# EAGLE library part К1921ВК01Т (library mcu)
АДКБ.431290.273 ТУ К1921ВК01Т - 32-разрядный микроконтроллер на базе ядра ARM Cortex-M4F с периферией, специализированной под задачи управления электроприводом. Содержит 1024Кб Flash-памяти, 64Кб EEPROM и 192Кб ОЗУ. Производитель: ОАО «НИИЭТ», г. Воронеж. Технические условия: АДКБ.431290.273 ТУ
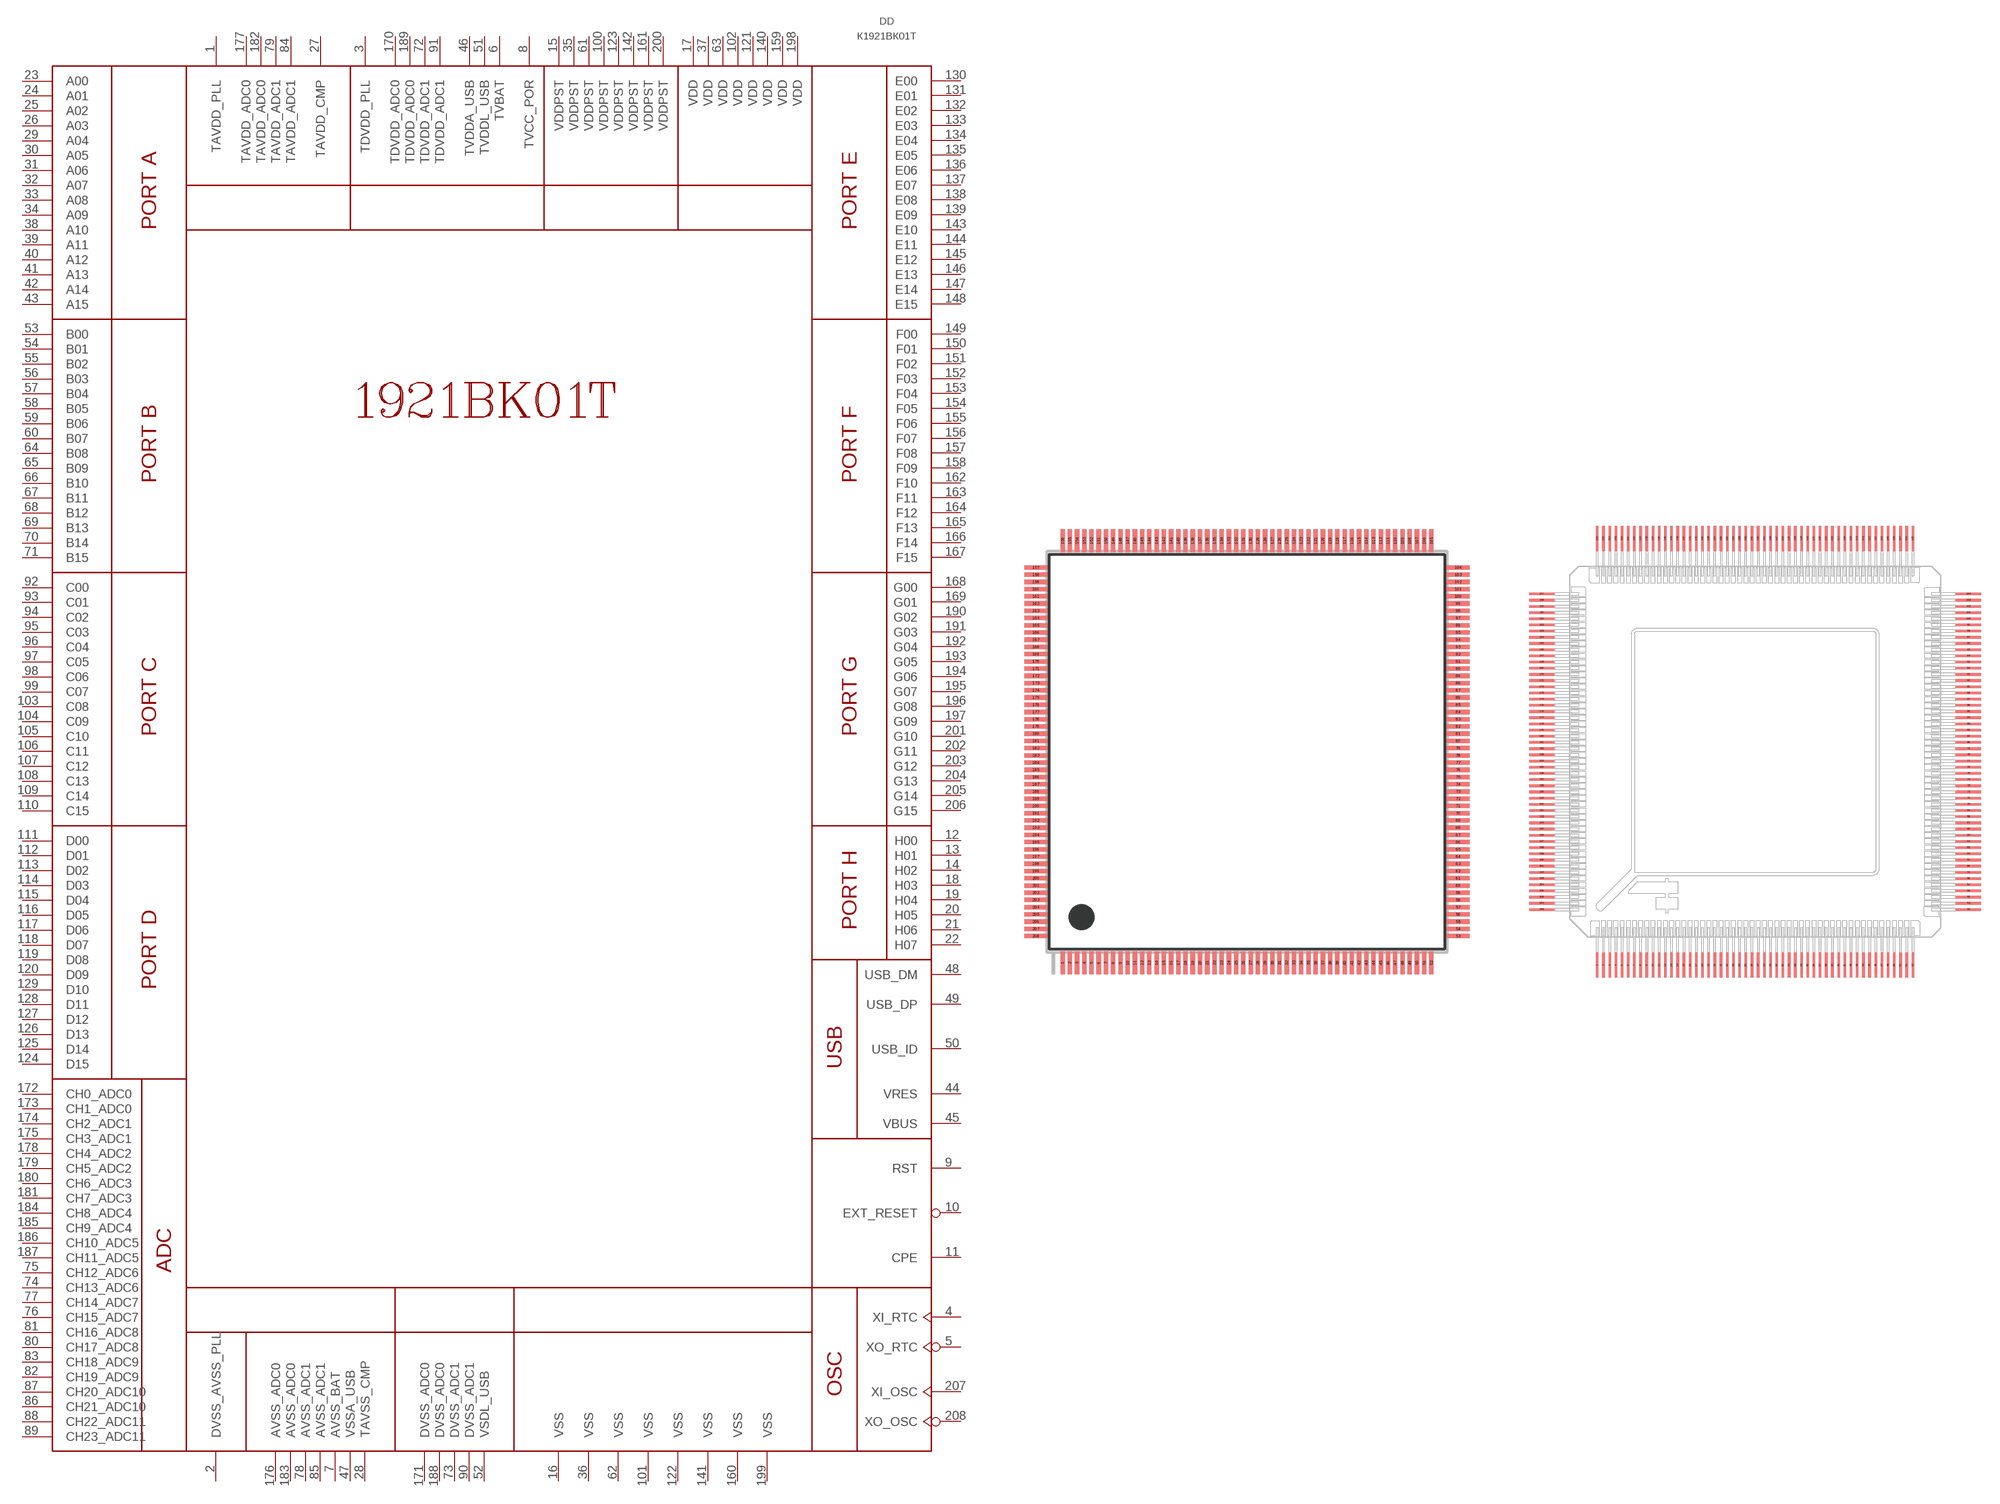
[diagram p4: symbol with the pads of QFP208L; footprints QFP208L, 4250.208-1]

Designator prefix DD

## К1921ВК01Т(QFP208L)  [QFP208L]
1  TAVDD_PLL  pwr
2  DVSS_AVSS_PLL  pwr
3  TDVDD_PLL  pwr
4  XI_RTC  in
5  XO_RTC  out
6  TVBAT  pwr
7  AVSS_BAT  pwr
8  TVCC_POR  pwr
9  RST
10  EXT_RESET  out
11  CPE
12  H00
13  H01
14  H02
15  VDDPST  pwr
16  VSS  pwr
17  VDD  pwr
18  H03
19  H04
20  H05
21  H06
22  H07
23  A00
24  A01
25  A02
26  A03
27  TAVDD_CMP  pwr
28  TAVSS_CMP  pwr
29  A04
30  A05
31  A06
32  A07
33  A08
34  A09
35  VDDPST  pwr
36  VSS  pwr
37  VDD  pwr
38  A10
39  A11
40  A12
41  A13
42  A14
43  A15
44  VRES  pwr
45  VBUS  pwr
46  TVDDA_USB  pwr
47  VSSA_USB  pwr
48  USB_DM
49  USB_DP
50  USB_ID
51  TVDDL_USB  pwr
52  VSDL_USB  pwr
53  B00
54  B01
55  B02
56  B03
57  B04
58  B05
59  B06
60  B07
61  VDDPST  pwr
62  VSS  pwr
63  VDD  pwr
64  B08
65  B09
66  B10
67  B11
68  B12
69  B13
70  B14
71  B15
72  TDVDD_ADC1  pwr
73  DVSS_ADC1  pwr
74  CH13_ADC6  in
75  CH12_ADC6  in
76  CH15_ADC7  in
77  CH14_ADC7  in
78  AVSS_ADC1  pwr
79  TAVDD_ADC1  pwr
80  CH17_ADC8  in
81  CH16_ADC8  in
82  CH19_ADC9  in
83  CH18_ADC9  in
84  TAVDD_ADC1  pwr
85  AVSS_ADC1  pwr
86  CH21_ADC10  in
87  CH20_ADC10  in
88  CH22_ADC11  in
89  CH23_ADC11  in
90  DVSS_ADC1  pwr
91  TDVDD_ADC1  pwr
92  C00
93  C01
94  C02
95  C03
96  C04
97  C05
98  C06
99  C07
100  VDDPST  pwr
101  VSS  pwr
102  VDD  pwr
103  C08
104  C09
105  C10
106  C11
107  C12
108  C13
109  C14
110  C15
111  D00
112  D01
113  D02
114  D03
115  D04
116  D05
117  D06
118  D07
119  D08
120  D09
121  VDD  pwr
122  VSS  pwr
123  VDDPST  pwr
124  D15
125  D14
126  D13
127  D12
128  D11
129  D10
130  E00
131  E01
132  E02
133  E03
134  E04
135  E05
136  E06
137  E07
138  E08
139  E09
140  VDD  pwr
141  VSS  pwr
142  VDDPST  pwr
143  E10
144  E11
145  E12
146  E13
147  E14
148  E15
149  F00
150  F01
151  F02
152  F03
153  F04
154  F05
155  F06
156  F07
157  F08
158  F09
159  VDD  pwr
160  VSS  pwr
161  VDDPST  pwr
162  F10
163  F11
164  F12
165  F13
166  F14
167  F15
168  G00
169  G01
170  TDVDD_ADC0  pwr
171  DVSS_ADC0  pwr
172  CH0_ADC0  in
173  CH1_ADC0  in
174  CH2_ADC1  in
175  CH3_ADC1  in
176  AVSS_ADC0  pwr
177  TAVDD_ADC0  pwr
178  CH4_ADC2  in
179  CH5_ADC2  in
180  CH6_ADC3  in
181  CH7_ADC3  in
182  TAVDD_ADC0  pwr
183  AVSS_ADC0  pwr
184  CH8_ADC4  in
185  CH9_ADC4  in
186  CH10_ADC5  in
187  CH11_ADC5  in
188  DVSS_ADC0  pwr
189  TDVDD_ADC0  pwr
190  G02
191  G03
192  G04
193  G05
194  G06
195  G07
196  G08
197  G09
198  VDD  pwr
199  VSS  pwr
200  VDDPST  pwr
201  G10
202  G11
203  G12
204  G13
205  G14
206  G15
207  XI_OSC  in
208  XO_OSC  out

## К1921ВК01Т(4250.208-1)  [4250.208-1]
Pads as for QFP208L

## Footprint QFP208L (pad centres in mm)
QFP208 shrink quad flat pack, square 0.5mm pitch, 28 x 28 mm
smd 0.3 x 1.6: 1 -12.75,-14.6; 2 -12.25,-14.6; 3 -11.75,-14.6; 4 -11.25,-14.6; 5 -10.75,-14.6; 6 -10.25,-14.6; 7 -9.75,-14.6; 8 -9.25,-14.6; 9 -8.75,-14.6; 10 -8.25,-14.6; 11 -7.75,-14.6; 12 -7.25,-14.6; 13 -6.75,-14.6; 14 -6.25,-14.6; 15 -5.75,-14.6; 16 -5.25,-14.6; 17 -4.75,-14.6; 18 -4.25,-14.6; 19 -3.75,-14.6; 20 -3.25,-14.6; 21 -2.75,-14.6; 22 -2.25,-14.6; 23 -1.75,-14.6; 24 -1.25,-14.6; 25 -0.75,-14.6; 26 -0.25,-14.6; 27 0.25,-14.6; 28 0.75,-14.6; 29 1.25,-14.6; 30 1.75,-14.6; 31 2.25,-14.6; 32 2.75,-14.6; 33 3.25,-14.6; 34 3.75,-14.6; 35 4.25,-14.6; 36 4.75,-14.6; 37 5.25,-14.6; 38 5.75,-14.6; 39 6.25,-14.6; 40 6.75,-14.6; 41 7.25,-14.6; 42 7.75,-14.6; 43 8.25,-14.6; 44 8.75,-14.6; 45 9.25,-14.6; 46 9.75,-14.6; 47 10.25,-14.6; 48 10.75,-14.6; 49 11.25,-14.6; 50 11.75,-14.6; 51 12.25,-14.6; 52 12.75,-14.6; 105 12.75,14.6; 106 12.25,14.6; 107 11.75,14.6; 108 11.25,14.6; 109 10.75,14.6; 110 10.25,14.6; 111 9.75,14.6; 112 9.25,14.6; 113 8.75,14.6; 114 8.25,14.6; 115 7.75,14.6; 116 7.25,14.6; 117 6.75,14.6; 118 6.25,14.6; 119 5.75,14.6; 120 5.25,14.6; 121 4.75,14.6; 122 4.25,14.6; 123 3.75,14.6; 124 3.25,14.6; 125 2.75,14.6; 126 2.25,14.6; 127 1.75,14.6; 128 1.25,14.6; 129 0.75,14.6; 130 0.25,14.6; 131 -0.25,14.6; 132 -0.75,14.6; 133 -1.25,14.6; 134 -1.75,14.6; 135 -2.25,14.6; 136 -2.75,14.6; 137 -3.25,14.6; 138 -3.75,14.6; 139 -4.25,14.6; 140 -4.75,14.6; 141 -5.25,14.6; 142 -5.75,14.6; 143 -6.25,14.6; 144 -6.75,14.6; 145 -7.25,14.6; 146 -7.75,14.6; 147 -8.25,14.6; 148 -8.75,14.6; 149 -9.25,14.6; 150 -9.75,14.6; 151 -10.25,14.6; 152 -10.75,14.6; 153 -11.25,14.6; 154 -11.75,14.6; 155 -12.25,14.6; 156 -12.75,14.6
smd 1.6 x 0.3: 53 14.6,-12.75; 54 14.6,-12.25; 55 14.6,-11.75; 56 14.6,-11.25; 57 14.6,-10.75; 58 14.6,-10.25; 59 14.6,-9.75; 60 14.6,-9.25; 61 14.6,-8.75; 62 14.6,-8.25; 63 14.6,-7.75; 64 14.6,-7.25; 65 14.6,-6.75; 66 14.6,-6.25; 67 14.6,-5.75; 68 14.6,-5.25; 69 14.6,-4.75; 70 14.6,-4.25; 71 14.6,-3.75; 72 14.6,-3.25; 73 14.6,-2.75; 74 14.6,-2.25; 75 14.6,-1.75; 76 14.6,-1.25; 77 14.6,-0.75; 78 14.6,-0.25; 79 14.6,0.25; 80 14.6,0.75; 81 14.6,1.25; 82 14.6,1.75; 83 14.6,2.25; 84 14.6,2.75; 85 14.6,3.25; 86 14.6,3.75; 87 14.6,4.25; 88 14.6,4.75; 89 14.6,5.25; 90 14.6,5.75; 91 14.6,6.25; 92 14.6,6.75; 93 14.6,7.25; 94 14.6,7.75; 95 14.6,8.25; 96 14.6,8.75; 97 14.6,9.25; 98 14.6,9.75; 99 14.6,10.25; 100 14.6,10.75; 101 14.6,11.25; 102 14.6,11.75; 103 14.6,12.25; 104 14.6,12.75; 157 -14.6,12.75; 158 -14.6,12.25; 159 -14.6,11.75; 160 -14.6,11.25; 161 -14.6,10.75; 162 -14.6,10.25; 163 -14.6,9.75; 164 -14.6,9.25; 165 -14.6,8.75; 166 -14.6,8.25; 167 -14.6,7.75; 168 -14.6,7.25; 169 -14.6,6.75; 170 -14.6,6.25; 171 -14.6,5.75; 172 -14.6,5.25; 173 -14.6,4.75; 174 -14.6,4.25; 175 -14.6,3.75; 176 -14.6,3.25; 177 -14.6,2.75; 178 -14.6,2.25; 179 -14.6,1.75; 180 -14.6,1.25; 181 -14.6,0.75; 182 -14.6,0.25; 183 -14.6,-0.25; 184 -14.6,-0.75; 185 -14.6,-1.25; 186 -14.6,-1.75; 187 -14.6,-2.25; 188 -14.6,-2.75; 189 -14.6,-3.25; 190 -14.6,-3.75; 191 -14.6,-4.25; 192 -14.6,-4.75; 193 -14.6,-5.25; 194 -14.6,-5.75; 195 -14.6,-6.25; 196 -14.6,-6.75; 197 -14.6,-7.25; 198 -14.6,-7.75; 199 -14.6,-8.25; 200 -14.6,-8.75; 201 -14.6,-9.25; 202 -14.6,-9.75; 203 -14.6,-10.25; 204 -14.6,-10.75; 205 -14.6,-11.25; 206 -14.6,-11.75; 207 -14.6,-12.25; 208 -14.6,-12.75

## Footprint 4250.208-1 (pad centres in mm)
smd 0.2 x 2: 1 -12.75,-17.25; 2 -12.25,-17.25; 3 -11.75,-17.25; 4 -11.25,-17.25; 5 -10.75,-17.25; 6 -10.25,-17.25; 7 -9.75,-17.25; 8 -9.25,-17.25; 9 -8.75,-17.25; 10 -8.25,-17.25; 11 -7.75,-17.25; 12 -7.25,-17.25; 13 -6.75,-17.25; 14 -6.25,-17.25; 15 -5.75,-17.25; 16 -5.25,-17.25; 17 -4.75,-17.25; 18 -4.25,-17.25; 19 -3.75,-17.25; 20 -3.25,-17.25; 21 -2.75,-17.25; 22 -2.25,-17.25; 23 -1.75,-17.25; 24 -1.25,-17.25; 25 -0.75,-17.25; 26 -0.25,-17.25; 27 0.25,-17.25; 28 0.75,-17.25; 29 1.25,-17.25; 30 1.75,-17.25; 31 2.25,-17.25; 32 2.75,-17.25; 33 3.25,-17.25; 34 3.75,-17.25; 35 4.25,-17.25; 36 4.75,-17.25; 37 5.25,-17.25; 38 5.75,-17.25; 39 6.25,-17.25; 40 6.75,-17.25; 41 7.25,-17.25; 42 7.75,-17.25; 43 8.25,-17.25; 44 8.75,-17.25; 45 9.25,-17.25; 46 9.75,-17.25; 47 10.25,-17.25; 48 10.75,-17.25; 49 11.25,-17.25; 50 11.75,-17.25; 51 12.25,-17.25; 52 12.75,-17.25; 105 12.75,17.25; 106 12.25,17.25; 107 11.75,17.25; 108 11.25,17.25; 109 10.75,17.25; 110 10.25,17.25; 111 9.75,17.25; 112 9.25,17.25; 113 8.75,17.25; 114 8.25,17.25; 115 7.75,17.25; 116 7.25,17.25; 117 6.75,17.25; 118 6.25,17.25; 119 5.75,17.25; 120 5.25,17.25; 121 4.75,17.25; 122 4.25,17.25; 123 3.75,17.25; 124 3.25,17.25; 125 2.75,17.25; 126 2.25,17.25; 127 1.75,17.25; 128 1.25,17.25; 129 0.75,17.25; 130 0.25,17.25; 131 -0.25,17.25; 132 -0.75,17.25; 133 -1.25,17.25; 134 -1.75,17.25; 135 -2.25,17.25; 136 -2.75,17.25; 137 -3.25,17.25; 138 -3.75,17.25; 139 -4.25,17.25; 140 -4.75,17.25; 141 -5.25,17.25; 142 -5.75,17.25; 143 -6.25,17.25; 144 -6.75,17.25; 145 -7.25,17.25; 146 -7.75,17.25; 147 -8.25,17.25; 148 -8.75,17.25; 149 -9.25,17.25; 150 -9.75,17.25; 151 -10.25,17.25; 152 -10.75,17.25; 153 -11.25,17.25; 154 -11.75,17.25; 155 -12.25,17.25; 156 -12.75,17.25
smd 2 x 0.2: 53 17.25,-12.75; 54 17.25,-12.25; 55 17.25,-11.75; 56 17.25,-11.25; 57 17.25,-10.75; 58 17.25,-10.25; 59 17.25,-9.75; 60 17.25,-9.25; 61 17.25,-8.75; 62 17.25,-8.25; 63 17.25,-7.75; 64 17.25,-7.25; 65 17.25,-6.75; 66 17.25,-6.25; 67 17.25,-5.75; 68 17.25,-5.25; 69 17.25,-4.75; 70 17.25,-4.25; 71 17.25,-3.75; 72 17.25,-3.25; 73 17.25,-2.75; 74 17.25,-2.25; 75 17.25,-1.75; 76 17.25,-1.25; 77 17.25,-0.75; 78 17.25,-0.25; 79 17.25,0.25; 80 17.25,0.75; 81 17.25,1.25; 82 17.25,1.75; 83 17.25,2.25; 84 17.25,2.75; 85 17.25,3.25; 86 17.25,3.75; 87 17.25,4.25; 88 17.25,4.75; 89 17.25,5.25; 90 17.25,5.75; 91 17.25,6.25; 92 17.25,6.75; 93 17.25,7.25; 94 17.25,7.75; 95 17.25,8.25; 96 17.25,8.75; 97 17.25,9.25; 98 17.25,9.75; 99 17.25,10.25; 100 17.25,10.75; 101 17.25,11.25; 102 17.25,11.75; 103 17.25,12.25; 104 17.25,12.75; 157 -17.25,12.75; 158 -17.25,12.25; 159 -17.25,11.75; 160 -17.25,11.25; 161 -17.25,10.75; 162 -17.25,10.25; 163 -17.25,9.75; 164 -17.25,9.25; 165 -17.25,8.75; 166 -17.25,8.25; 167 -17.25,7.75; 168 -17.25,7.25; 169 -17.25,6.75; 170 -17.25,6.25; 171 -17.25,5.75; 172 -17.25,5.25; 173 -17.25,4.75; 174 -17.25,4.25; 175 -17.25,3.75; 176 -17.25,3.25; 177 -17.25,2.75; 178 -17.25,2.25; 179 -17.25,1.75; 180 -17.25,1.25; 181 -17.25,0.75; 182 -17.25,0.25; 183 -17.25,-0.25; 184 -17.25,-0.75; 185 -17.25,-1.25; 186 -17.25,-1.75; 187 -17.25,-2.25; 188 -17.25,-2.75; 189 -17.25,-3.25; 190 -17.25,-3.75; 191 -17.25,-4.25; 192 -17.25,-4.75; 193 -17.25,-5.25; 194 -17.25,-5.75; 195 -17.25,-6.25; 196 -17.25,-6.75; 197 -17.25,-7.25; 198 -17.25,-7.75; 199 -17.25,-8.25; 200 -17.25,-8.75; 201 -17.25,-9.25; 202 -17.25,-9.75; 203 -17.25,-10.25; 204 -17.25,-10.75; 205 -17.25,-11.25; 206 -17.25,-11.75; 207 -17.25,-12.25; 208 -17.25,-12.75